# Altium footprint library P600.PcbLib: 1 footprints
Each footprint in its own frame and in the unit in brackets; x right, y up, seen from the top. Pads: shape width x height; smd on the part's side, far side on the other; paste and mask are expansions set on the pad; w line width, h text height; cw(c..) or ccw(c..) is an arc to the next point about the centre after c.
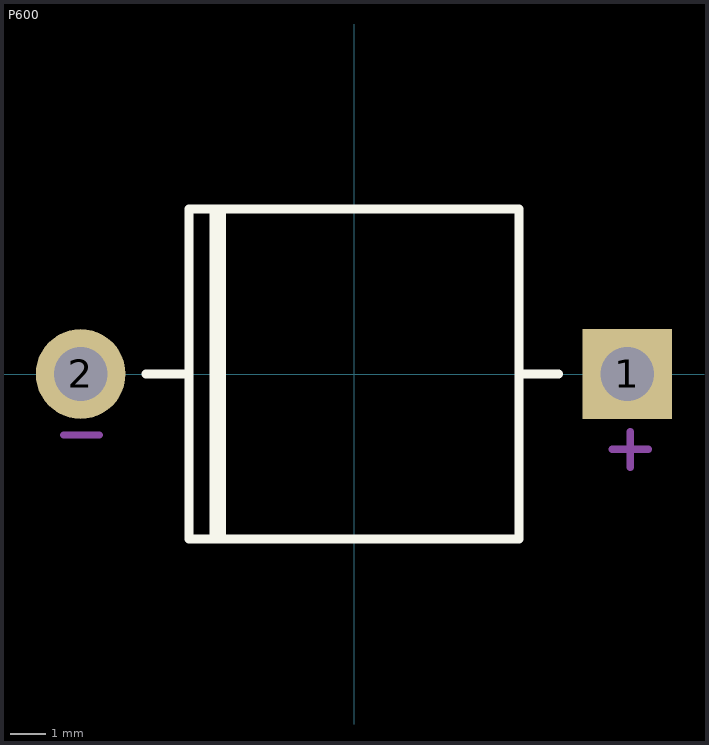
[diagram p0: the footprint, top view; thin cyan lines are the x and y axes]

## P600 [mm]
pads (2):
  rect 2.5x2.5 hole 1.5: 1(7.62,0)
  round 2.5 hole 1.5: 2(-7.62,0)
Top Overlay:
  lines w0.254: -5.8,0 -4.6,0 ; -3.9,-4.6 -3.9,4.6 ; -3.7,-4.6 -3.7,4.6 ; 4.6,0 5.7,0 ; -4.6,-4.6 4.6,-4.6 4.6,4.6 -4.6,4.6 -4.6,-4.6
Mechanical 15:
  lines w0.203: -8.1,-1.7 -7.1,-1.7 ; 7.2,-2.1 8.2,-2.1 ; 7.7,-2.6 7.7,-1.6